# EAGLE library part GPS (library awesome)
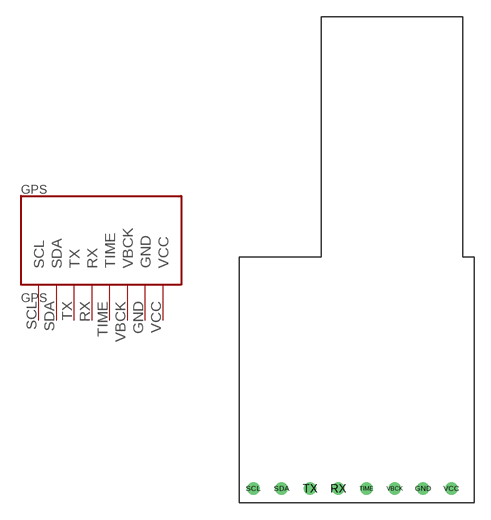
[diagram p3: symbol with the pads of GPS; footprint GPS]

Designator prefix GPS

## GPS  [GPS]
GND  GND
RX  RX
SCL  SCL
SDA  SDA
TIME  TIME
TX  TX
VBCK  VBCK
VCC  VCC

## Footprint GPS (pad centres in mm)
drill 0.6: GND 16.51,1.27; RX 8.89,1.27; SCL 1.27,1.27; SDA 3.81,1.27; TIME 11.43,1.27; TX 6.35,1.27; VBCK 13.97,1.27; VCC 19.05,1.27